# Altium schematic symbol library MAX11192.SchLib: 2 symbols
Pins are listed as number, name and electrical type; pins without a type are passive.

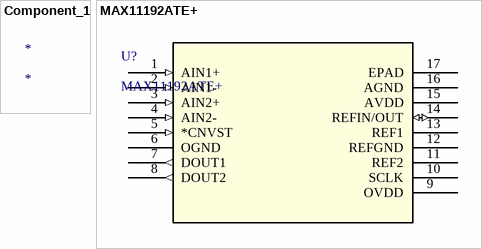
[diagram p0: symbols Component_1 to MAX11192ATE+]

## Component_1
designator *

## MAX11192ATE+
designator U?
No Description Available; Vendor: Maxim Integrated Products; SourceLibrary: Maxim_2019-05-07; Manufacturer_Part_Number: MAX11192ATE+; Copyright: Copyright (C) 2018 Accelerated Designs. All rights reserved; RefDes: RefDes; Type: DEV
footprint 21-100030A_T1623CN+1_MXM
pins: 1 AIN1+ (in), 2 AIN1- (in), 3 AIN2+ (in), 4 AIN2- (in), 5 *CNVST (in), 6 OGND (power), 7 DOUT1 (out), 8 DOUT2 (out), 9 OVDD (power), 10 SCLK, 11 REF2, 12 REFGND (power), 13 REF1, 14 REFIN/OUT (io), 15 AVDD (power), 16 AGND (power), 17 EPAD